# Altium integrated library 1N4001W-T.IntLib: 1 symbol
Pins are listed as number, name and electrical type; pins without a type are passive.

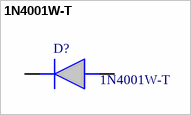
[diagram p0: symbol 1N4001W-T]

## 1N4001W-T
designator D?
Rectifiers SOD-123,1A,50V,GP; Manufacturer_Name: Rectron; Geometry.Height: 1.3mm; Mouser Part Number: 583-1N4001W-T; Mouser Price/Stock: https://www.mouser.co.uk/ProductDetail/Rectron/1N4001W-T?qs=QNEnbhJQKvbnHIVMak28nQ%3D%3D; Manufacturer_Part_Number: 1N4001W-T; Datasheet Link: *
footprint SODFL3818X130N
pins: 1 K, 2 A